# EAGLE library part 4050435 (library ampex)
Repro Card
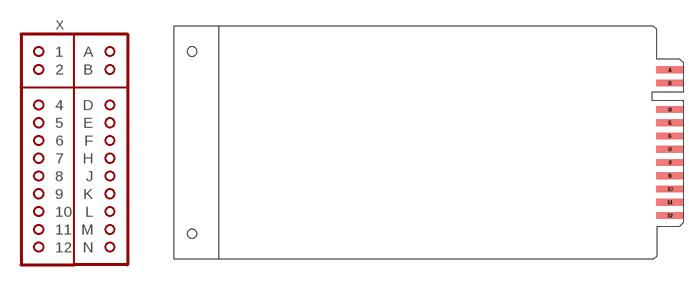
[diagram p6: symbol with the pads of 4050435; footprint 4050435]

Designator prefix X

## 4050435  [4050435]
1  1  pas
2  2  pas
4  4  pas
5  5  pas
6  6  pas
7  7  pas
8  8  pas
9  9  pas
10  10  pas
11  11  pas
12  12  pas
A  A  pas
B  B  pas
D  D  pas
E  E  pas
F  F  pas
H  H  pas
J  J  pas
K  K  pas
L  L  pas
M  M  pas
N  N  pas

## Footprint 4050435 (pad centres in mm)
REPRO CARD
smd 8.128 x 2.032 bottom: 1 75.286,21.793; 2 75.286,17.831; 4 75.286,9.906; 5 75.286,5.944; 6 75.286,1.981; 7 75.286,-1.981; 8 75.286,-5.944; 9 75.286,-9.906; 10 75.286,-13.868; 11 75.286,-17.831; 12 75.286,-21.793
smd 8.128 x 2.032: A 75.286,21.793; B 75.286,17.831; D 75.286,9.906; E 75.286,5.944; F 75.286,1.981; H 75.286,-1.981; J 75.286,-5.944; K 75.286,-9.906; L 75.286,-13.868; M 75.286,-17.831; N 75.286,-21.793
hole 2.794 at -67.856,27.241
hole 2.794 at -67.856,-27.241